# EAGLE library part ST7735 (library me433)
ST7735 - 128x160 TFTLCD * Pins: 8 * SPI Interface
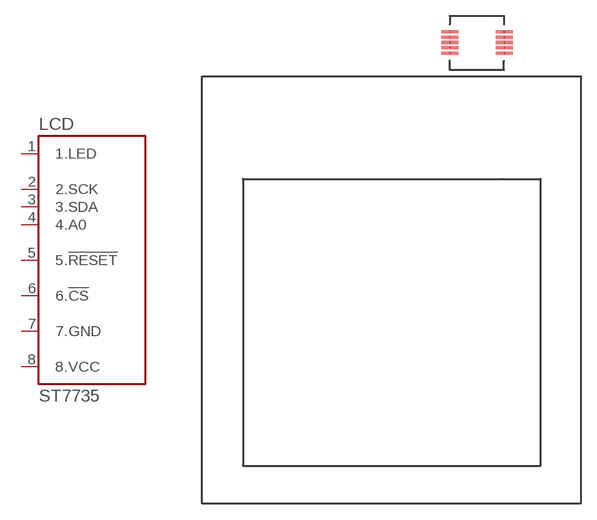
[diagram p5: symbol with the pads of DISPLAY; footprint DISPLAY]

Designator prefix LCD

## ST7735  [DISPLAY]
1  1.LED
2  2.SCK
3  3.SDA
4  4.A0
5  5.!RESET!
6  6.!CS!
7  7.GND
8  8.VCC

## Footprint DISPLAY (pad centres in mm)
Generic Display
smd 1.6 x 0.3: 1 24.255,44.311; 2 24.255,43.811; 3 24.255,43.311; 4 24.255,42.811; 5 24.255,42.311; 6 29.389,42.303; 7 29.389,42.803; 8 29.389,43.303; 9 29.389,43.803; 10 29.389,44.303